# Altium schematic symbol library MergenElektronik_Microcontrollers_STMicroelectronics.SchLib: 2 symbols
Pins are listed as number, name and electrical type; pins without a type are passive.

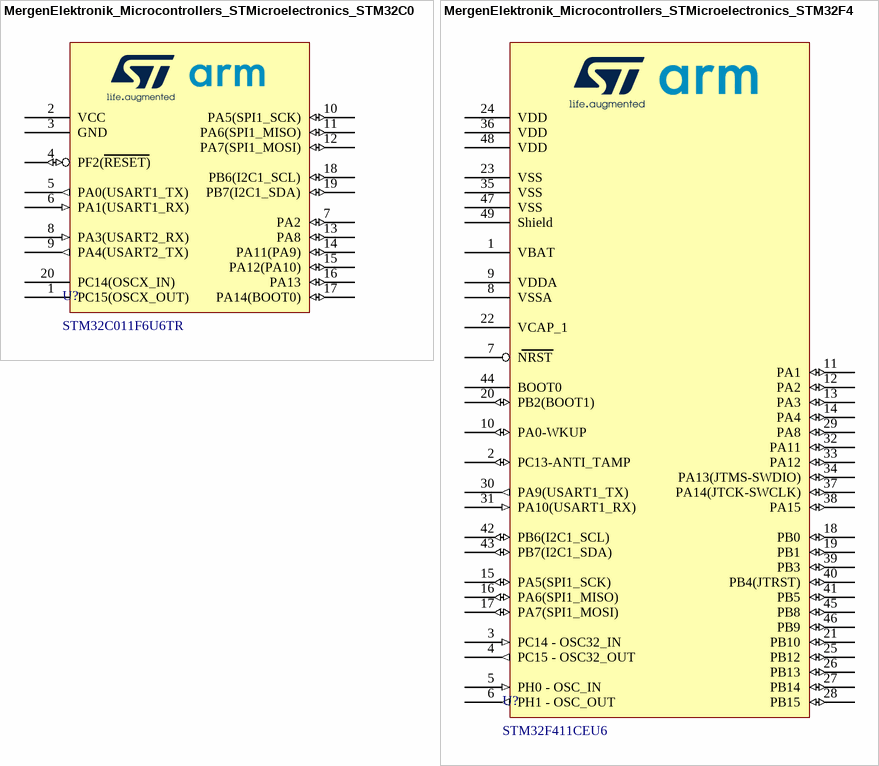
[diagram p0: symbols MergenElektronik_Microcontrollers_STMicroelectronics_STM32C011F6U6TR to MergenElektronik_Microcontrollers_STMicroelectronics_STM32F411CEU6]

## MergenElektronik_Microcontrollers_STMicroelectronics_STM32C011F6U6TR
designator U?, comment STM32C011F6U6TR
Mergen Elektronik - Microcontrollers - STMicroelectronics - STM32C011F6U6TR; Model: ARM® Cortex®-M0+ Microcontroller; Operating Supply Voltage: 2V up to 3.6V; Number of I/O: 18; Speed: 48MHz; Core Size: 32-Bit; Memory Size: 32kB; Ram Size: 6K x 8; Digi-Key Number: 497-STM32C011F6U6TR-ND; Manufacturer: STMicroelectronics; Manufacturer Number: STM32C011F6U6TR; Mounting Type: Surface Mount; Mouser Number: 511-STM32C011F6U6TR; Package: UFQFPN-20; Temperature: -40°C up to 85°C (TA); Value: STM32C011F6U6TR; Farnell Number: 4138292RL; Supplier 1: Digikey; Supplier 2: Mouser; Supplier Part Number 1: 497-STM32C011F6U6TRCT-ND; Supplier Part Number 2: 511-STM32C011F6U6TR
footprint MergenElektronik_Microcontrollers_STMicroelectronics_UFQFPN-20 (UFQFPN-20)
pins: 1 PC15(OSCX_OUT) "OSC32_EN, OSC_EN, TIM1_ETR, TIM3_CH3, OSCX_OUT", 2 VCC (power), 3 GND (power), 4 PF2(RESET) (io) "MCO, TIM1_CH4, NRST", 5 PA0(USART1_TX) (out) "USART2_CTS, TIM16_CH1, USART1_TX, TIM1_CH1, ADC_IN0, WKUP1", 6 PA1(USART1_RX) (in) "SPI1_SCK/I2S1_CK, USART2_RTS_DE_CK,  TIM17_CH1, USART1_RX, TIM1_CH2, I2C1_SMBA, EVENTOUT, ADC_IN1", 7 PA2 (io) "SPI1_MOSI/I2S1_SD, USART2_TX, TIM16_CH1N,  TIM3_ETR, TIM1_CH3, ADC_IN2,  WKUP4,LSCO", 8 PA3(USART2_RX) (in) "USART2_RX, TIM1_CH1N, TIM1_CH4, EVENTOUT, ADC_IN3", 9 PA4(USART2_TX) (out) "SPI1_NSS/I2S1_WS, USART2_TX, TIM1_CH2N,  TIM14_CH1, TIM17_CH1N, EVENTOUT, ADC_IN4, RTC_TS, RTC_OUT1, WKUP2", 10 PA5(SPI1_SCK) (io) "SPI1_SCK/I2S1_CK, USART2_RX, TIM1_CH3N,  TIM1_CH1, EVENTOUT, ADC_IN5", 11 PA6(SPI1_MISO) (io) "SPI1_MISO/I2S1_MCK, TIM3_CH1, TIM1_BKIN,  TIM16_CH1, ADC_IN6", 12 PA7(SPI1_MOSI) (io) "SPI1_MOSI/I2S1_SD, TIM3_CH2, TIM1_CH1N,  TIM14_CH1, TIM17_CH1, ADC_IN7", 13 PA8 (io) "MCO, USART2_TX, TIM1_CH1, EVENTOUT,  SPI1_NSS/I2S1_WS, TIM1_CH2N, TIM1_CH3N,  TIM3_CH3, TIM3_CH4, TIM14_CH1, USART1_RX,  MCO2, ADC_IN8", 14 PA11(PA9) (io) "SPI1_MISO/I2S1_MCK, USART1_CTS, TIM1_CH4, TIM1_BKIN2, ADC_IN11 | MCO, USART1_TX, TIM1_CH2, TIM3_ETR,  I2C1_SCL, EVENTOUT", 15 PA12(PA10) (io) "SPI1_MOSI/I2S1_SD, USART1_RTS_DE_CK,  TIM1_ETR, I2S_CKIN, ADC_IN12 | USART1_RX, TIM1_CH3, MCO2, TIM17_BKIN,  I2C1_SDA, EVENTOUT", 16 PA13 (io) "SWDIO, IR_OUT, TIM3_ETR, USART2_RX,  EVENTOUT, ADC_IN13", 17 PA14(BOOT0) (io) "SWCLK, USART2_TX, EVENTOUT,  SPI1_NSS/I2S1_WS, USART2_RX, TIM1_CH1,  MCO2, USART1_RTS_DE_CK, ADC_IN14, BOOT0", 18 PB6(I2C1_SCL) (io) "USART1_TX, TIM1_CH3, TIM16_CH1N, TIM3_CH3,  USART1_RTS_DE_CK, USART1_CTS, I2C1_SCL,  I2C1_SMBA, SPI1_MOSI/I2S1_SD,  SPI1_MISO/I2S1_MCK, SPI1_SCK/I2S1_CK,  TIM1_CH2, TIM3_CH1, TIM3_CH2, TIM16_BKIN,  TIM17_BKIN, WKUP3", 19 PB7(I2C1_SDA) (io) "USART1_RX, TIM1_CH4, TIM17_CH1N, TIM3_CH4,  I2C1_SDA, EVENTOUT, USART2_CTS, TIM16_CH1,  TIM3_CH1, I2C1_SCL, RTC_REFIN", 20 PC14(OSCX_IN) "USART1_TX, TIM1_ETR, TIM1_BKIN2, IR_OUT,  USART2_RTS_DE_CK, TIM17_CH1, TIM3_CH2,  I2C1_SDA, EVENTOUT, OSCX_IN"

## MergenElektronik_Microcontrollers_STMicroelectronics_STM32F411CEU6
designator U?, comment STM32F411CEU6
Mergen Elektronik - Microcontrollers - STMicroelectronics - STM32F411CEU6; Model: ARM® Cortex®-M4 Microcontroller; Operating Supply Voltage: 1.7V up to 3.6V; Number of I/O: 36; Speed: 100MHz with PLL; Core Size: 32-Bit; Memory Size: 512kB; Ram Size: 128K x 8; Digi-Key Number: 497-14907-ND; Manufacturer: STMicroelectronics; Manufacturer Number: STM32F411CEU6; Mounting Type: Surface Mount; Mouser Number: 511-STM32F411CEU6; Package: UFQFPN-48; Temperature: -40°C up to 85°C (TA); Value: STM32F411CEU6; Farnell Number: 3365489; Supplier 1: Digikey; Supplier 2: Mouser; Supplier Part Number 1: 497-14907-ND; Supplier Part Number 2: 511-STM32F411CEU6
footprint MergenElektronik_Microcontrollers_STMicroelectronics_UFQFPN-48 (UFQFPN-48)
pins: 1 VBAT (power), 2 PC13-ANTI_TAMP (io), 3 PC14 - OSC32_IN (in), 4 PC15 - OSC32_OUT (out), 5 PH0 - OSC_IN (in), 6 PH1 - OSC_OUT (out), 7 NRST, 8 VSSA, 9 VDDA, 10 PA0-WKUP (io), 11 PA1 (io), 12 PA2 (io), 13 PA3 (io), 14 PA4 (io), 15 PA5(SPI1_SCK) (io), 16 PA6(SPI1_MISO) (io), 17 PA7(SPI1_MOSI) (io), 18 PB0 (io), 19 PB1 (io), 20 PB2(BOOT1) (io), 21 PB10 (io), 22 VCAP_1 (power), 23 VSS (power), 24 VDD (power), 25 PB12 (io), 26 PB13 (io), 27 PB14 (io), 28 PB15 (io), 29 PA8 (io), 30 PA9(USART1_TX) (out), 31 PA10(USART1_RX) (in), 32 PA11 (io), 33 PA12 (io), 34 PA13(JTMS-SWDIO) (io), 35 VSS (power), 36 VDD (power), 37 PA14(JTCK-SWCLK) (io), 38 PA15 (io), 39 PB3 (io), 40 PB4(JTRST) (io), 41 PB5 (io), 42 PB6(I2C1_SCL) (io), 43 PB7(I2C1_SDA) (io), 44 BOOT0, 45 PB8 (io), 46 PB9 (io), 47 VSS (power), 48 VDD (power), 49 Shield